# Altium integrated library NXP Semiconductors Standard MOSFETs.IntLib: 477 symbols (part 4 of 14)
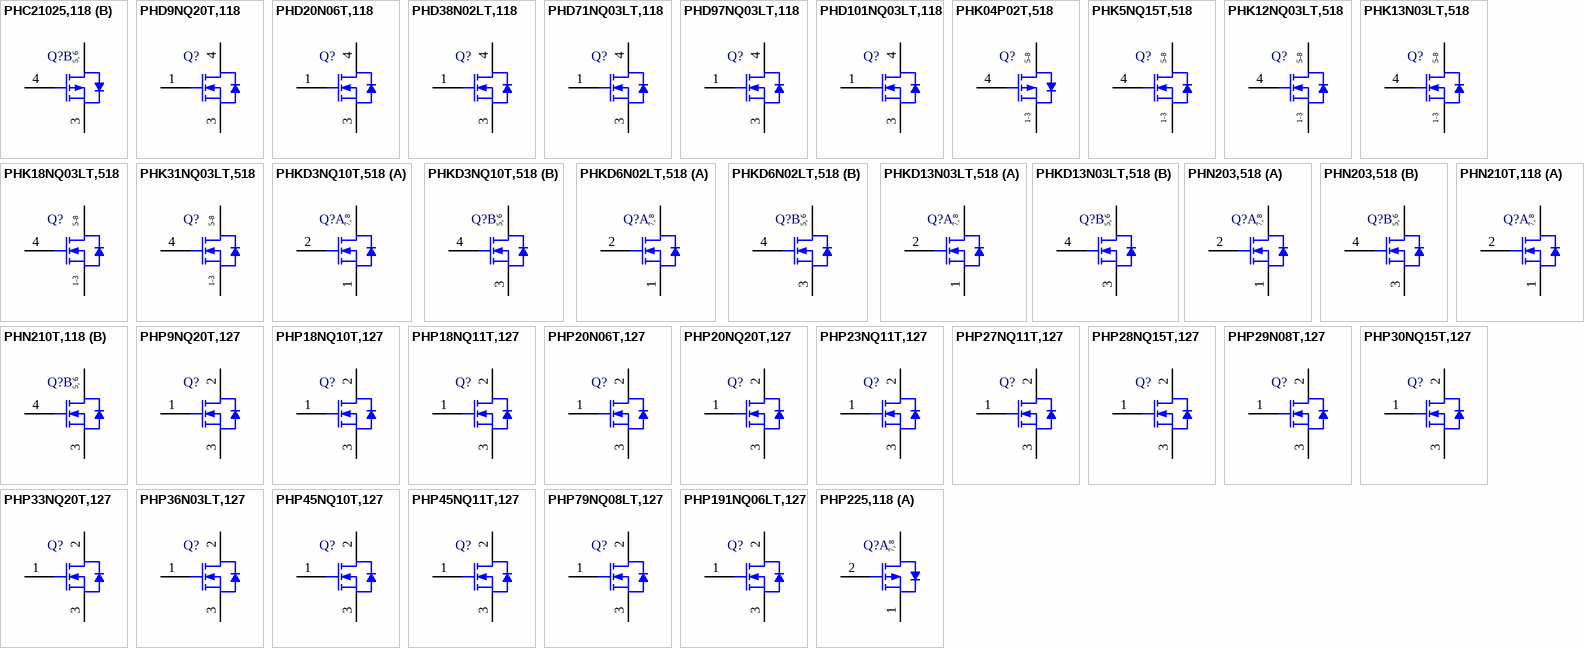
[diagram p15: symbols PHC21025,118 to PHP225,118]

## PHP28NQ15T,127
designator Q?
N-Channel TrenchMOS Standard Level FET, 150 V, 28.5 A, 3-Pin SOT78, Tube; Manufacturer: NXP Semiconductors; PartNumber: PHP28NQ15T,127; Channel Type: N; Ciss [typ] (pF): 1250; Coss [typ] (pF): 185; ID [max] (A): 28.5; Qr [typ] (nC): 170; VDS [max] (V): 150; VGSth [typ] (V): 3; DatasheetVersion: Rev. 02; PackageVersion: 08-06-13, 06/2008; PackageReference: SOT78; PackageDescription: 3-Pin Flange Mount, Vertical Straight Lead, Body 10 x 4.4 mm, Pitch 2.54 mm; Supplier 1: Digi-Key; Supplier Part Number 1: 568-5761-5-ND; Supplier 2: Mouser; Supplier Part Number 2: 771-PHP28NQ15T,127; Packing: Tube; Mounting Technology: Through Hole; Code_JEITA: SC-46; Code_JEDEC: 3-lead TO-220AB; ComponentLink1Description: Manufacturer URL; ComponentLink1URL: http://www.nxp.com/; ComponentLink2Description: Datasheet; ComponentLink2URL: http://www.nxp.com/documents/data_sheet/PHP28NQ15T.pdf; ComponentLink3Description: Package Specification; ComponentLink3URL: http://www.nxp.com/documents/outline_drawing/sot078_po.pdf
footprint NXP-SOT78 (FM, 3-Leads, Body 10.3x4.7mm, Pitch 2.54mm)
pins: 1 G "gate", 2 D "drain", 3 S "source"

## PHP29N08T,127
designator Q?
N-Channel TrenchMOS Standard Level FET, 75 V, 27 A, 3-Pin SOT78, Tube; Manufacturer: NXP Semiconductors; PartNumber: PHP29N08T,127; Channel Type: N; Ciss [typ] (pF): 810; Coss [typ] (pF): 140; ID [max] (A): 27; Qr [typ] (nC): 65; VDS [max] (V): 75; VGSth [typ] (V): 4; DatasheetVersion: Rev. 02; PackageVersion: 08-06-13, 06/2008; PackageReference: SOT78; PackageDescription: 3-Pin Flange Mount, Vertical Straight Lead, Body 10 x 4.4 mm, Pitch 2.54 mm; Supplier 1: Digi-Key; Supplier Part Number 1: 568-5762-5-ND; Supplier 2: Mouser; Supplier Part Number 2: 771-PHP29N08T127; Packing: Tube; Mounting Technology: Through Hole; Code_JEITA: SC-46; Code_JEDEC: 3-lead TO-220AB; ComponentLink1Description: Manufacturer URL; ComponentLink1URL: http://www.nxp.com/; ComponentLink2Description: Datasheet; ComponentLink2URL: http://www.nxp.com/documents/data_sheet/PHP29N08T.pdf; ComponentLink3Description: Package Specification; ComponentLink3URL: http://www.nxp.com/documents/outline_drawing/sot078_po.pdf
footprint NXP-SOT78 (FM, 3-Leads, Body 10.3x4.7mm, Pitch 2.54mm)
pins: 1 G "gate", 2 D "drain", 3 S "source"

## PHP30NQ15T,127
designator Q?
N-Channel TrenchMOS Standard Level FET, 150 V, 29 A, 3-Pin SOT78, Tube; Manufacturer: NXP Semiconductors; PartNumber: PHP30NQ15T,127; Channel Type: N; Ciss [typ] (pF): 2390; Coss [typ] (pF): 240; ID [max] (A): 29; Qr [typ] (nC): 550; VDS [max] (V): 150; VGSth [typ] (V): 3; DatasheetVersion: Rev. 03; PackageVersion: 08-06-13, 06/2008; PackageReference: SOT78; PackageDescription: 3-Pin Flange Mount, Vertical Straight Lead, Body 10 x 4.4 mm, Pitch 2.54 mm; Supplier 1: Digi-Key; Supplier Part Number 1: 568-5763-5-ND; Supplier 2: Mouser; Supplier Part Number 2: 771-PHP30NQ15T127; Packing: Tube; Mounting Technology: Through Hole; Code_JEITA: SC-46; Code_JEDEC: 3-lead TO-220AB; ComponentLink1Description: Manufacturer URL; ComponentLink1URL: http://www.nxp.com/; ComponentLink2Description: Datasheet; ComponentLink2URL: http://www.nxp.com/documents/data_sheet/PHP30NQ15T.pdf; ComponentLink3Description: Package Specification; ComponentLink3URL: http://www.nxp.com/documents/outline_drawing/sot078_po.pdf
footprint NXP-SOT78 (FM, 3-Leads, Body 10.3x4.7mm, Pitch 2.54mm)
pins: 1 G "gate", 2 D "drain", 3 S "source"

## PHP33NQ20T,127
designator Q?
N-Channel TrenchMOS Standard Level FET, 200 V, 32.7 A, 3-Pin SOT78, Tube; Manufacturer: NXP Semiconductors; PartNumber: PHP33NQ20T,127; Channel Type: N; Ciss [typ] (pF): 1870; Coss [typ] (pF): 230; ID [max] (A): 32.7; Qr [typ] (nC): 645; VDS [max] (V): 200; VGSth [typ] (V): 3; DatasheetVersion: Rev. 02; PackageVersion: 08-06-13, 06/2008; PackageReference: SOT78; PackageDescription: 3-Pin Flange Mount, Vertical Straight Lead, Body 10 x 4.4 mm, Pitch 2.54 mm; Supplier 1: Digi-Key; Supplier Part Number 1: 568-5764-5-ND; Supplier 2: Mouser; Supplier Part Number 2: 771-PHP33NQ20T127; Packing: Tube; Mounting Technology: Through Hole; Code_JEITA: SC-46; Code_JEDEC: 3-lead TO-220AB; ComponentLink1Description: Manufacturer URL; ComponentLink1URL: http://www.nxp.com/; ComponentLink2Description: Datasheet; ComponentLink2URL: http://www.nxp.com/documents/data_sheet/PHP33NQ20T.pdf; ComponentLink3Description: Package Specification; ComponentLink3URL: http://www.nxp.com/documents/outline_drawing/sot078_po.pdf
footprint NXP-SOT78 (FM, 3-Leads, Body 10.3x4.7mm, Pitch 2.54mm)
pins: 1 G "gate", 2 D "drain", 3 S "source"

## PHP36N03LT,127
designator Q?
N-Channel TrenchMOS Logic Level FET, 30 V, 43.4 A, 3-Pin SOT78, Tube; Manufacturer: NXP Semiconductors; PartNumber: PHP36N03LT,127; Channel Type: N; Ciss [typ] (pF): 690; Coss [typ] (pF): 160; ID [max] (A): 43.4; VDS [max] (V): 30; VGSth [typ] (V): 1.5; DatasheetVersion: Rev. 04; PackageVersion: 08-06-13, 06/2008; PackageReference: SOT78; PackageDescription: 3-Pin Flange Mount, Vertical Straight Lead, Body 10 x 4.4 mm, Pitch 2.54 mm; Supplier 1: Digi-Key; Supplier Part Number 1: 568-5765-5-ND; Supplier 2: Mouser; Supplier Part Number 2: 771-PHP36N03LT,127; Packing: Tube; Mounting Technology: Through Hole; Code_JEITA: SC-46; Code_JEDEC: 3-lead TO-220AB; ComponentLink1Description: Manufacturer URL; ComponentLink1URL: http://www.nxp.com/; ComponentLink2Description: Datasheet; ComponentLink2URL: http://www.nxp.com/documents/data_sheet/PHP36N03LT.pdf; ComponentLink3Description: Package Specification; ComponentLink3URL: http://www.nxp.com/documents/outline_drawing/sot078_po.pdf
footprint NXP-SOT78 (FM, 3-Leads, Body 10.3x4.7mm, Pitch 2.54mm)
pins: 1 G "gate", 2 D "drain", 3 S "source"

## PHP45NQ10T,127
designator Q?
N-Channel TrenchMOS Standard Level FET, 100 V, 47 A, 3-Pin SOT78, Tube; Manufacturer: NXP Semiconductors; PartNumber: PHP45NQ10T,127; Channel Type: N; Ciss [typ] (pF): 2600; Coss [typ] (pF): 340; ID [max] (A): 47; Qr [typ] (nC): 260; VDS [max] (V): 100; VGSth [typ] (V): 3; DatasheetVersion: Rev. 02; PackageVersion: 08-06-13, 06/2008; PackageReference: SOT78; PackageDescription: 3-Pin Flange Mount, Vertical Straight Lead, Body 10 x 4.4 mm, Pitch 2.54 mm; Supplier 1: Digi-Key; Supplier Part Number 1: 568-5766-5-ND; Supplier 2: Mouser; Supplier Part Number 2: 771-PHP45NQ10T127; Packing: Tube; Mounting Technology: Through Hole; Code_JEITA: SC-46; Code_JEDEC: 3-lead TO-220AB; ComponentLink1Description: Manufacturer URL; ComponentLink1URL: http://www.nxp.com/; ComponentLink2Description: Datasheet; ComponentLink2URL: http://www.nxp.com/documents/data_sheet/PHP45NQ10T.pdf; ComponentLink3Description: Package Specification; ComponentLink3URL: http://www.nxp.com/documents/outline_drawing/sot078_po.pdf
footprint NXP-SOT78 (FM, 3-Leads, Body 10.3x4.7mm, Pitch 2.54mm)
pins: 1 G "gate", 2 D "drain", 3 S "source"

## PHP45NQ11T,127
designator Q?
N-Channel TrenchMOS Standard Level FET, 105 V, 47 A, 3-Pin SOT78, Tube; Manufacturer: NXP Semiconductors; PartNumber: PHP45NQ11T,127; Channel Type: N; Ciss [typ] (pF): 2930; Coss [typ] (pF): 245; ID [max] (A): 47; Qr [typ] (nC): 117; VDS [max] (V): 105; VGSth [typ] (V): 3; DatasheetVersion: Rev. 02; PackageVersion: 08-06-13, 06/2008; PackageReference: SOT78; PackageDescription: 3-Pin Flange Mount, Vertical Straight Lead, Body 10 x 4.4 mm, Pitch 2.54 mm; Supplier 1: Digi-Key; Supplier Part Number 1: 568-5767-5-ND; Supplier 2: Mouser; Supplier Part Number 2: 771-PHP45NQ11T127; Packing: Tube; Mounting Technology: Through Hole; Code_JEITA: SC-46; Code_JEDEC: 3-lead TO-220AB; ComponentLink1Description: Manufacturer URL; ComponentLink1URL: http://www.nxp.com/; ComponentLink2Description: Datasheet; ComponentLink2URL: http://www.nxp.com/documents/data_sheet/PHP45NQ11T.pdf; ComponentLink3Description: Package Specification; ComponentLink3URL: http://www.nxp.com/documents/outline_drawing/sot078_po.pdf
footprint NXP-SOT78 (FM, 3-Leads, Body 10.3x4.7mm, Pitch 2.54mm)
pins: 1 G "gate", 2 D "drain", 3 S "source"

## PHP79NQ08LT,127
designator Q?
N-Channel TrenchMOS Logic Level FET, 75 V, 3-Pin SOT78, Tube; Manufacturer: NXP Semiconductors; PartNumber: PHP79NQ08LT,127; Channel Type: N; Ciss [typ] (pF): 3026; Coss [typ] (pF): 301; Qr [typ] (nC): 110; VDS [max] (V): 75; VGSth [typ] (V): 1.5; DatasheetVersion: Rev. 03; PackageVersion: 08-06-13, 06/2008; PackageReference: SOT78; PackageDescription: 3-Pin Flange Mount, Vertical Straight Lead, Body 10 x 4.4 mm, Pitch 2.54 mm; Supplier 1: Digi-Key; Supplier Part Number 1: 568-5768-5-ND; Supplier 2: Mouser; Supplier Part Number 2: 771-PHP79NQ08LT,127; Packing: Tube; Mounting Technology: Through Hole; Code_JEITA: SC-46; Code_JEDEC: 3-lead TO-220AB; ComponentLink1Description: Manufacturer URL; ComponentLink1URL: http://www.nxp.com/; ComponentLink2Description: Datasheet; ComponentLink2URL: http://www.nxp.com/documents/data_sheet/PHP79NQ08LT.pdf; ComponentLink3Description: Package Specification; ComponentLink3URL: http://www.nxp.com/documents/outline_drawing/sot078_po.pdf
footprint NXP-SOT78 (FM, 3-Leads, Body 10.3x4.7mm, Pitch 2.54mm)
pins: 1 G "gate", 2 D "drain", 3 S "source"

## PHP191NQ06LT,127
designator Q?
N-Channel TrenchMOS Logic Level FET, 55 V, 75 A, 3-Pin SOT78, Tube; Manufacturer: NXP Semiconductors; PartNumber: PHP191NQ06LT,127; Channel Type: N; Ciss [typ] (pF): 7665; Coss [typ] (pF): 1045; ID [max] (A): 75; Qr [typ] (nC): 171; VDS [max] (V): 55; VGSth [typ] (V): 1.5; DatasheetVersion: Rev. 02; PackageVersion: 08-06-13, 06/2008; PackageReference: SOT78; PackageDescription: 3-Pin Flange Mount, Vertical Straight Lead, Body 10 x 4.4 mm, Pitch 2.54 mm; Supplier 1: Digi-Key; Supplier Part Number 1: 568-5756-5-ND; Supplier 2: Mouser; Supplier Part Number 2: 771-PHP191NQ06LT,127; Packing: Tube; Mounting Technology: Through Hole; Code_JEITA: SC-46; Code_JEDEC: 3-lead TO-220AB; ComponentLink1Description: Manufacturer URL; ComponentLink1URL: http://www.nxp.com/; ComponentLink2Description: Datasheet; ComponentLink2URL: http://www.nxp.com/documents/data_sheet/PHP191NQ06LT.pdf; ComponentLink3Description: Package Specification; ComponentLink3URL: http://www.nxp.com/documents/outline_drawing/sot078_po.pdf
footprint NXP-SOT78 (FM, 3-Leads, Body 10.3x4.7mm, Pitch 2.54mm)
pins: 1 G "gate", 2 D "drain", 3 S "source"

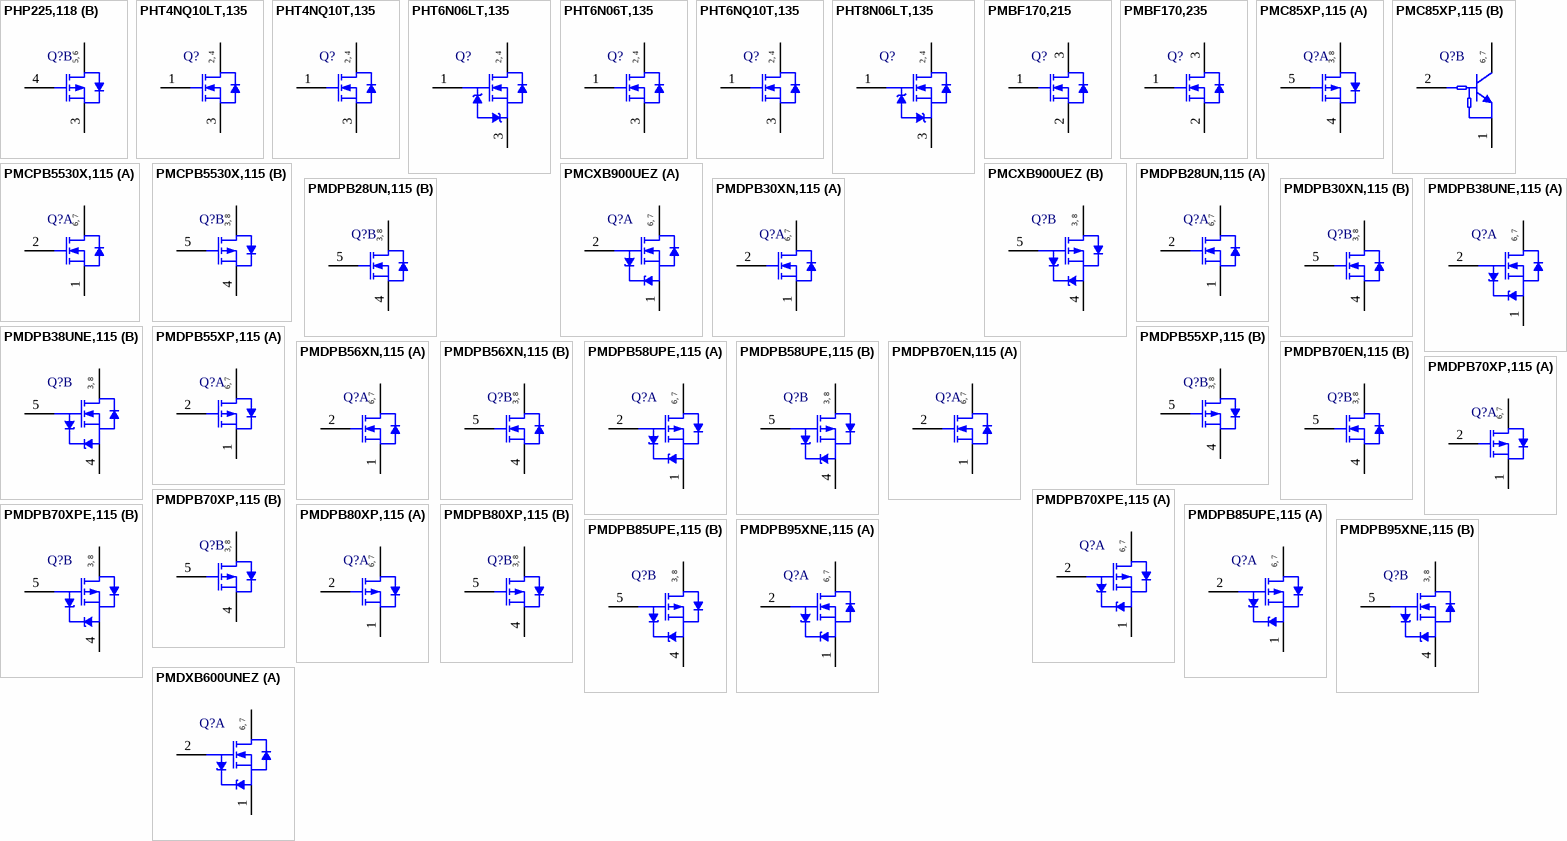
[diagram p3: symbols PHP225,118 to PMDXB600UNEZ]

## PHP225,118
designator Q?
Dual P-Channel Intermediate Level FET, -30 V, -2.3 A, 8-Pin SOT96-1, Tape and Reel; Manufacturer: NXP Semiconductors; PartNumber: PHP225,118; Channel Type: P; Ciss [typ] (pF): 250; Coss [typ] (pF): 140; Packing: Tape & Reel; Code_IEC: 76000; DatasheetVersion: Rev. 04; PackageVersion: 03-02-18, 02/2003; PackageReference: SOT96-1; PackageDescription: 8-Pin Plastic Small Outline Package, Body 4.9 x 3.9 mm, Pitch 1.27 mm; Supplier 1: Digi-Key; Supplier Part Number 1: 568-9693-2-ND; Supplier 2: Digi-Key; Supplier Part Number 2: 568-9693-1-ND; Supplier 3: Digi-Key; Supplier Part Number 3: 568-9693-6-ND; Supplier 4: Mouser; Supplier Part Number 4: 771-PHP225118; ID [max] (A): -2.3; VDS [max] (V): -30; Mounting Technology: Surface Mount; Code_JEDEC: MS-012; ComponentLink1Description: Manufacturer URL; ComponentLink1URL: http://www.nxp.com/; ComponentLink2Description: Datasheet; ComponentLink2URL: http://www.nxp.com/documents/data_sheet/PHP225.pdf; ComponentLink3Description: Package Specification; ComponentLink3URL: http://www.nxp.com/documents/outline_drawing/sot096-1_po.pdf
footprint NXP-SOT96-1_N (SOIC, 8-Leads, Body 5x4mm, Pitch 1.27mm, IPC Medium Density)
footprint NXP-SOT96-1_L (SOIC, 8-Leads, Body 5x4mm, Pitch 1.27mm, IPC High Density)
footprint NXP-SOT96-1_M (SOIC, 8-Leads, Body 5x4mm, Pitch 1.27mm, IPC Low Density)
part A pins: 1 S1 "source1", 2 G1 "gate1", 7 D1 "drain1", 8 D1 "drain1"
part B pins: 3 S2 "source2", 4 G2 "gate2", 5 D2 "drain2", 6 D2 "drain2"
part A text: 7, 8
part B text: 5, 6

## PHT4NQ10LT,135
designator Q?
N-Channel TrenchMOS Logic Level FET, 100 V, 3.5 A, 4-Pin SOT223, Tape and Reel; Manufacturer: NXP Semiconductors; PartNumber: PHT4NQ10LT,135; Channel Type: N; ID [max] (A): 3.5; Packing: Tape & Reel; Qr [typ] (nC): 100; DatasheetVersion: Rev. 2; PackageVersion: 06-03-16, 03/2006; PackageReference: SOT223; PackageDescription: 4-Pin Small Outline Transistor Package, Body 6.5 x 3.5 mm, Pitch 2.3 mm; Supplier 1: Digi-Key; Supplier Part Number 1: 568-6758-2-ND; Supplier 2: Digi-Key; Supplier Part Number 2: 568-6758-1-ND; Supplier 3: Digi-Key; Supplier Part Number 3: 568-6758-6-ND; Supplier 4: Farnell; Supplier Part Number 4: 1758090; Supplier 5: Farnell; Supplier Part Number 5: 1758090RL; Supplier 6: Newark; Supplier Part Number 6: 79R1995; Supplier 7: Mouser; Supplier Part Number 7: 771-PHT4NQ10LT135; VDS [max] (V): 100; Mounting Technology: Surface Mount; Code_JEITA: SC-73; ComponentLink1Description: Manufacturer URL; ComponentLink1URL: http://www.nxp.com/; ComponentLink2Description: Datasheet; ComponentLink2URL: http://www.nxp.com/documents/data_sheet/PHT4NQ10LT.pdf; ComponentLink3Description: Package Specification; ComponentLink3URL: http://www.nxp.com/documents/outline_drawing/sot223_po.pdf
footprint NXP-SOT223_N (SOT223, 4-Leads, Body 6.7x3.7mm, Pitch 2.3mm, IPC Medium Density)
footprint NXP-SOT223_L (SOT223, 4-Leads, Body 6.7x3.7mm, Pitch 2.3mm, IPC High Density)
footprint NXP-SOT223_M (SOT223, 4-Leads, Body 6.7x3.7mm, Pitch 2.3mm, IPC Low Density)
pins: 1 G "gate", 2 D "drain", 3 S "source", 4 D "drain"
text: 2, 4

## PHT4NQ10T,135
designator Q?
N-Channel TrenchMOS(TM) Standard Level FET, 100 V, 3.5 A, 4-Pin SOT223, Tape and Reel; Manufacturer: NXP Semiconductors; PartNumber: PHT4NQ10T,135; Channel Type: N; Ciss [typ] (pF): 300; Coss [typ] (pF): 44; ID [max] (A): 3.5; Packing: Tape & Reel; Qr [typ] (nC): 100; VGSth [typ] (V): 3; DatasheetVersion: Rev. 02; PackageVersion: 06-03-16, 03/2006; PackageReference: SOT223; PackageDescription: 4-Pin Small Outline Transistor Package, Body 6.5 x 3.5 mm, Pitch 2.3 mm; Supplier 1: Digi-Key; Supplier Part Number 1: 568-6777-2-ND; Supplier 2: Digi-Key; Supplier Part Number 2: 568-6777-1-ND; Supplier 3: Digi-Key; Supplier Part Number 3: 568-6777-6-ND; Supplier 4: Farnell; Supplier Part Number 4: 1758091; Supplier 5: Farnell; Supplier Part Number 5: 1758091RL; Supplier 6: Newark; Supplier Part Number 6: 79R1996; Supplier 7: Mouser; Supplier Part Number 7: 771-PHT4NQ10T135; VDS [max] (V): 100; Mounting Technology: Surface Mount; Code_JEITA: SC-73; ComponentLink1Description: Manufacturer URL; ComponentLink1URL: http://www.nxp.com/; ComponentLink2Description: Datasheet; ComponentLink2URL: http://www.nxp.com/documents/data_sheet/PHT4NQ10T.pdf; ComponentLink3Description: Package Specification; ComponentLink3URL: http://www.nxp.com/documents/outline_drawing/sot223_po.pdf
footprint NXP-SOT223_N (SOT223, 4-Leads, Body 6.7x3.7mm, Pitch 2.3mm, IPC Medium Density)
footprint NXP-SOT223_L (SOT223, 4-Leads, Body 6.7x3.7mm, Pitch 2.3mm, IPC High Density)
footprint NXP-SOT223_M (SOT223, 4-Leads, Body 6.7x3.7mm, Pitch 2.3mm, IPC Low Density)
pins: 1 G "gate", 2 D "drain", 3 S "source", 4 D "drain"
text: 2, 4

## PHT6N06LT,135
designator Q?
N-Channel TrenchMOS(TM) Transistor Logic Level FET, 55 V, -55 to 150 degC, 4-Pin SOT223, Tape and Reel; Manufacturer: NXP Semiconductors; PartNumber: PHT6N06LT,135; Channel Type: N; Ciss [typ] (pF): 250; Coss [typ] (pF): 65; Packing: Tape & Reel; Qr [typ] (nC): 160; VDS [max] (V): 55; VGSth [typ] (V): 1.5; DatasheetVersion: Rev. 1.100; PackageVersion: 06-03-16, 03/2006; PackageReference: SOT223; PackageDescription: 4-Pin Small Outline Transistor Package, Body 6.5 x 3.5 mm, Pitch 2.3 mm; Supplier 1: Digi-Key; Supplier Part Number 1: 568-7367-2-ND; Supplier 2: Digi-Key; Supplier Part Number 2: 568-7367-1-ND; Supplier 3: Digi-Key; Supplier Part Number 3: 568-7367-6-ND; Supplier 4: Newark; Supplier Part Number 4: 79R1998; Supplier 5: Mouser; Supplier Part Number 5: 771-PHT6N06LT135; Mounting Technology: Surface Mount; Code_JEITA: SC-73; ComponentLink1Description: Manufacturer URL; ComponentLink1URL: http://www.nxp.com/; ComponentLink2Description: Datasheet; ComponentLink2URL: http://www.nxp.com/documents/data_sheet/PHT6N06LT.pdf; ComponentLink3Description: Package Specification; ComponentLink3URL: http://www.nxp.com/documents/outline_drawing/sot223_po.pdf
footprint NXP-SOT223_N (SOT223, 4-Leads, Body 6.7x3.7mm, Pitch 2.3mm, IPC Medium Density)
footprint NXP-SOT223_L (SOT223, 4-Leads, Body 6.7x3.7mm, Pitch 2.3mm, IPC High Density)
footprint NXP-SOT223_M (SOT223, 4-Leads, Body 6.7x3.7mm, Pitch 2.3mm, IPC Low Density)
pins: 1 G "gate", 2 D "drain", 3 S "source", 4 D "drain (tab)"
text: 2, 4

## PHT6N06T,135
designator Q?
N-Channel TrenchMOS(TM) Standard Level FET, 55 V, 5.5 A, 4-Pin SOT223, Tape and Reel; Manufacturer: NXP Semiconductors; PartNumber: PHT6N06T,135; Channel Type: N; Ciss [typ] (pF): 175; Coss [typ] (pF): 58; ID [max] (A): 5.5; Packing: Tape & Reel; Qr [typ] (nC): 50; VDS [max] (V): 55; VGSth [typ] (V): 3; DatasheetVersion: Rev. 02; PackageVersion: 06-03-16, 03/2006; PackageReference: SOT223; PackageDescription: 4-Pin Small Outline Transistor Package, Body 6.5 x 3.5 mm, Pitch 2.3 mm; Supplier 1: Digi-Key; Supplier Part Number 1: 568-7368-2-ND; Supplier 2: Digi-Key; Supplier Part Number 2: 568-7368-1-ND; Supplier 3: Digi-Key; Supplier Part Number 3: 568-7368-6-ND; Supplier 4: Newark; Supplier Part Number 4: 79R1999; Supplier 5: Newark; Supplier Part Number 5: 70R7493; Supplier 6: Mouser; Supplier Part Number 6: 771-PHT6N06T135; Mounting Technology: Surface Mount; Code_JEITA: SC-73; ComponentLink1Description: Manufacturer URL; ComponentLink1URL: http://www.nxp.com/; ComponentLink2Description: Datasheet; ComponentLink2URL: http://www.nxp.com/documents/data_sheet/PHT6N06T.pdf; ComponentLink3Description: Package Specification; ComponentLink3URL: http://www.nxp.com/documents/outline_drawing/sot223_po.pdf
footprint NXP-SOT223_N (SOT223, 4-Leads, Body 6.7x3.7mm, Pitch 2.3mm, IPC Medium Density)
footprint NXP-SOT223_L (SOT223, 4-Leads, Body 6.7x3.7mm, Pitch 2.3mm, IPC High Density)
footprint NXP-SOT223_M (SOT223, 4-Leads, Body 6.7x3.7mm, Pitch 2.3mm, IPC Low Density)
pins: 1 G "gate", 2 D "drain", 3 S "source", 4 D "drain"
text: 2, 4

## PHT6NQ10T,135
designator Q?
N-Channel TrenchMOS(TM) Transistor, 100 V, 4-Pin SOT223, Tape and Reel; Manufacturer: NXP Semiconductors; PartNumber: PHT6NQ10T,135; Channel Type: N; Ciss [typ] (pF): 633; Coss [typ] (pF): 103; Packing: Tape & Reel; Qr [typ] (nC): 135; VDS [max] (V): 100; VGSth [typ] (V): 3; DatasheetVersion: Rev. 1.000; PackageVersion: 06-03-16, 03/2006; PackageReference: SOT223; PackageDescription: 4-Pin Small Outline Transistor Package, Body 6.5 x 3.5 mm, Pitch 2.3 mm; Supplier 1: Digi-Key; Supplier Part Number 1: 568-6791-2-ND; Supplier 2: Digi-Key; Supplier Part Number 2: 568-6791-1-ND; Supplier 3: Digi-Key; Supplier Part Number 3: 568-6791-6-ND; Supplier 4: Newark; Supplier Part Number 4: 79R1997; Supplier 5: Mouser; Supplier Part Number 5: 771-PHT6NQ10T135; Mounting Technology: Surface Mount; Code_JEITA: SC-73; ComponentLink1Description: Manufacturer URL; ComponentLink1URL: http://www.nxp.com/; ComponentLink2Description: Datasheet; ComponentLink2URL: http://www.nxp.com/documents/data_sheet/PHT6NQ10T.pdf; ComponentLink3Description: Package Specification; ComponentLink3URL: http://www.nxp.com/documents/outline_drawing/sot223_po.pdf
footprint NXP-SOT223_N (SOT223, 4-Leads, Body 6.7x3.7mm, Pitch 2.3mm, IPC Medium Density)
footprint NXP-SOT223_L (SOT223, 4-Leads, Body 6.7x3.7mm, Pitch 2.3mm, IPC High Density)
footprint NXP-SOT223_M (SOT223, 4-Leads, Body 6.7x3.7mm, Pitch 2.3mm, IPC Low Density)
pins: 1 G "gate", 2 D "drain", 3 S "source", 4 D "drain"
text: 2, 4

## PHT8N06LT,135
designator Q?
N-Channel TrenchMOS(TM) Transistor Logic Level FET, 55 V, -55 to 150 degC, 4-Pin SOT223, Tape and Reel; Manufacturer: NXP Semiconductors; PartNumber: PHT8N06LT,135; Channel Type: N; Ciss [typ] (pF): 500; Coss [typ] (pF): 110; Packing: Tape & Reel; VDS [max] (V): 55; VGSth [typ] (V): 1.5; DatasheetVersion: Rev. 1.100; PackageVersion: 06-03-16, 03/2006; PackageReference: SOT223; PackageDescription: 4-Pin Small Outline Transistor Package, Body 6.5 x 3.5 mm, Pitch 2.3 mm; Supplier 1: Digi-Key; Supplier Part Number 1: 568-7369-2-ND; Supplier 2: Digi-Key; Supplier Part Number 2: 568-7369-1-ND; Supplier 3: Digi-Key; Supplier Part Number 3: 568-7369-6-ND; Supplier 4: Newark; Supplier Part Number 4: 79R2000; Supplier 5: Mouser; Supplier Part Number 5: 771-PHT8N06LT135; Mounting Technology: Surface Mount; Code_JEITA: SC-73; ComponentLink1Description: Manufacturer URL; ComponentLink1URL: http://www.nxp.com/; ComponentLink2Description: Datasheet; ComponentLink2URL: http://www.nxp.com/documents/data_sheet/PHT8N06LT.pdf; ComponentLink3Description: Package Specification; ComponentLink3URL: http://www.nxp.com/documents/outline_drawing/sot223_po.pdf
footprint NXP-SOT223_N (SOT223, 4-Leads, Body 6.7x3.7mm, Pitch 2.3mm, IPC Medium Density)
footprint NXP-SOT223_L (SOT223, 4-Leads, Body 6.7x3.7mm, Pitch 2.3mm, IPC High Density)
footprint NXP-SOT223_M (SOT223, 4-Leads, Body 6.7x3.7mm, Pitch 2.3mm, IPC Low Density)
pins: 1 G "gate", 2 D "drain", 3 S "source", 4 D "drain (tab)"
text: 2, 4

## PMBF170,215
designator Q?
N-Channel Enhancement Mode Field-Effect Transistor, 60 V, 0.3 A, 3-Pin SOT23, Tape and Reel; Manufacturer: NXP Semiconductors; PartNumber: PMBF170,215; Channel Type: N; Ciss [typ] (pF): 25; Coss [typ] (pF): 18; ID [max] (A): 0.3; Packing: Tape & Reel; Qr [typ] (nC): 30; VDS [max] (V): 60; VGSth [typ] (V): 2; DatasheetVersion: Rev. 03; PackageVersion: 06-03-16, 03/2006; PackageReference: SOT23; PackageDescription: 3-Pin Small Outline Transistor Package, Body 2.9 x 1.3 mm, Pitch 0.95 mm; Supplier 1: Digi-Key; Supplier Part Number 1: 568-6477-2-ND; Supplier 2: Digi-Key; Supplier Part Number 2: 568-6477-1-ND; Supplier 3: Digi-Key; Supplier Part Number 3: 568-6477-6-ND; Supplier 4: Farnell; Supplier Part Number 4: 1081473; Supplier 5: Farnell; Supplier Part Number 5: 1081473RL; Supplier 6: Farnell; Supplier Part Number 6: 2336816; Supplier 7: Newark; Supplier Part Number 7: 75R4824; Supplier 8: Newark; Supplier Part Number 8: 96K5160; Supplier 9: Newark; Supplier Part Number 9: 70R7592; Supplier 10: Mouser; Supplier Part Number 10: 771-PMBF170-T/R; Mounting Technology: Surface Mount; Code_JEDEC: TO-236AB; ComponentLink1Description: Manufacturer URL; ComponentLink1URL: http://www.nxp.com/; ComponentLink2Description: Datasheet; ComponentLink2URL: http://www.nxp.com/documents/data_sheet/PMBF170.pdf; ComponentLink3Description: Package Specification; ComponentLink3URL: http://www.nxp.com/documents/outline_drawing/sot023_po.pdf
footprint NXP-SOT23_N (SOT23, 3-Leads, Body 3x1.4mm, Pitch 0.95mm, IPC Medium Density)
footprint NXP-SOT23_L (SOT23, 3-Leads, Body 3x1.4mm, Pitch 0.95mm, IPC High Density)
footprint NXP-SOT23_M (SOT23, 3-Leads, Body 3x1.4mm, Pitch 0.95mm, IPC Low Density)
pins: 1 G "gate", 2 S "source", 3 D "drain"

## PMBF170,235
designator Q?
N-Channel Enhancement Mode Field-Effect Transistor, 60 V, 0.3 A, 3-Pin SOT23, Tape and Reel; Manufacturer: NXP Semiconductors; PartNumber: PMBF170,235; Channel Type: N; Ciss [typ] (pF): 25; Coss [typ] (pF): 18; ID [max] (A): 0.3; Packing: Tape & Reel; Qr [typ] (nC): 30; VDS [max] (V): 60; VGSth [typ] (V): 2; DatasheetVersion: Rev. 03; PackageVersion: 06-03-16, 03/2006; PackageReference: SOT23; PackageDescription: 3-Pin Small Outline Transistor Package, Body 2.9 x 1.3 mm, Pitch 0.95 mm; Supplier 1: Digi-Key; Supplier Part Number 1: PMBF170,235-ND; Supplier 2: Newark; Supplier Part Number 2: 70R7593; Supplier 3: Mouser; Supplier Part Number 3: 771-PMBF170235; Mounting Technology: Surface Mount; Code_JEDEC: TO-236AB; ComponentLink1Description: Manufacturer URL; ComponentLink1URL: http://www.nxp.com/; ComponentLink2Description: Datasheet; ComponentLink2URL: http://www.nxp.com/documents/data_sheet/PMBF170.pdf; ComponentLink3Description: Package Specification; ComponentLink3URL: http://www.nxp.com/documents/outline_drawing/sot023_po.pdf
footprint NXP-SOT23_N (SOT23, 3-Leads, Body 3x1.4mm, Pitch 0.95mm, IPC Medium Density)
footprint NXP-SOT23_L (SOT23, 3-Leads, Body 3x1.4mm, Pitch 0.95mm, IPC High Density)
footprint NXP-SOT23_M (SOT23, 3-Leads, Body 3x1.4mm, Pitch 0.95mm, IPC Low Density)
pins: 1 G "gate", 2 S "source", 3 D "drain"

## PMC85XP,115
designator Q?
P-Channel MOSFET with Pre-Biased NPN Transistor, -30 V, -55 to 150 degC, 8-Pin SOT1118, Reel; Manufacturer: NXP Semiconductors; PartNumber: PMC85XP,115; Channel Type: P; Ciss [typ] (pF): 680; Coss [typ] (pF): 54; VGSth [typ] (V): -0.78; DatasheetVersion: Rev. 2; PackageVersion: 13-06-06, 06/2013; PackageReference: SOT1118; PackageDescription: 6-Pin Small Outline No-Lead, Body 2 x 2 mm, Pitch 0.65 mm; Supplier 1: Digi-Key; Supplier Part Number 1: 568-10441-2-ND; Supplier 2: Digi-Key; Supplier Part Number 2: 568-10441-1-ND; Supplier 3: Digi-Key; Supplier Part Number 3: 568-10441-6-ND; Supplier 4: Mouser; Supplier Part Number 4: 771-PMC85XP,115; Packing: Reel; VDS [max] (V): -30; Mounting Technology: Surface Mount; ComponentLink1Description: Manufacturer URL; ComponentLink1URL: http://www.nxp.com/; ComponentLink2Description: Datasheet; ComponentLink2URL: http://www.nxp.com/documents/data_sheet/PMC85XP.pdf; ComponentLink3Description: Package Specification; ComponentLink3URL: http://www.nxp.com/documents/outline_drawing/sot1118_po.pdf
footprint NXP-SOT1118_N (SON, 6-Leads, Body 2.1x2.1mm, Pitch 0.65mm, 2X Thermal Pad 0.67x1 mm, IPC Medium Density)
footprint NXP-SOT1118_L (SON, 6-Leads, Body 2.1x2.1mm, Pitch 0.65mm, 2X Thermal Pad 0.67x1 mm, IPC High Density)
footprint NXP-SOT1118_M (SON, 6-Leads, Body 2.1x2.1mm, Pitch 0.65mm, 2X Thermal Pad 0.67x1 mm, IPC Low Density)
part A pins: 3 D "drain", 4 S "source", 5 G "gate", 8 D "drain"
part B pins: 1 E "emitter", 2 B "base", 6 C "collector", 7 C "collector"
part A text: 3, 8
part B text: 6, 7

## PMCPB5530X,115
designator Q?
Dual Complementary N/P-Channel Trench MOSFET, 20 / -20 V, -55 to 150 degC, 8-Pin SOT1118, Reel; Manufacturer: NXP Semiconductors; PartNumber: PMCPB5530X,115; Channel Type: N/P; DatasheetVersion: Rev. 1; PackageVersion: 13-06-06, 06/2013; PackageReference: SOT1118; PackageDescription: 6-Pin Small Outline No-Lead, Body 2 x 2 mm, Pitch 0.65 mm; Supplier 1: Digi-Key; Supplier Part Number 1: 568-10754-2-ND; Supplier 2: Digi-Key; Supplier Part Number 2: 568-10754-1-ND; Supplier 3: Digi-Key; Supplier Part Number 3: 568-10754-6-ND; Supplier 4: Mouser; Supplier Part Number 4: 771-PMCPB5530X115; Packing: Reel; Mounting Technology: Surface Mount; ComponentLink1Description: Manufacturer URL; ComponentLink1URL: http://www.nxp.com/; ComponentLink2Description: Datasheet; ComponentLink2URL: http://www.nxp.com/documents/data_sheet/PMCPB5530X.pdf; ComponentLink3Description: Package Specification; ComponentLink3URL: http://www.nxp.com/documents/outline_drawing/sot1118_po.pdf
footprint NXP-SOT1118_N (SON, 6-Leads, Body 2.1x2.1mm, Pitch 0.65mm, 2X Thermal Pad 0.67x1 mm, IPC Medium Density)
footprint NXP-SOT1118_L (SON, 6-Leads, Body 2.1x2.1mm, Pitch 0.65mm, 2X Thermal Pad 0.67x1 mm, IPC High Density)
footprint NXP-SOT1118_M (SON, 6-Leads, Body 2.1x2.1mm, Pitch 0.65mm, 2X Thermal Pad 0.67x1 mm, IPC Low Density)
part A pins: 1 S1 "source TR1", 2 G1 "gate TR1", 6 D1 "drain TR1", 7 D1 "drain TR1"
part B pins: 3 D2 "drain TR2", 4 S2 "source TR2", 5 G2 "gate TR2", 8 D2 "drain TR2"
part A text: 6, 7
part B text: 3, 8

## PMCXB900UEZ
designator Q?
Dual Complementary N/P-Channel Trench MOSFET, 20 / -20 V, 0.6 / -0.5 A, -55 to 150 degC, 8-Pin SOT1216; Manufacturer: NXP Semiconductors; PartNumber: PMCXB900UEZ; Channel Type: N/P; DatasheetVersion: Rev. 1; PackageVersion: 13-03-06, 03/2013; PackageReference: SOT1216; PackageDescription: 6-Pin Small Outline No-Lead, Body 1.1 x 1 mm, Pitch 0.35 mm; Supplier 1: Digi-Key; Supplier Part Number 1: PMCXB900UEZ-ND; Supplier 2: Newark; Supplier Part Number 2: 23X8427; Supplier 3: Mouser; Supplier Part Number 3: 771-PMCXB900UEZ; Mounting Technology: Surface Mount; ComponentLink1Description: Manufacturer URL; ComponentLink1URL: http://www.nxp.com/; ComponentLink2Description: Datasheet; ComponentLink2URL: http://www.nxp.com/documents/data_sheet/PMCXB900UE.pdf; ComponentLink3Description: Package Specification; ComponentLink3URL: http://www.nxp.com/documents/outline_drawing/sot1216_po.pdf
footprint NXP-SOT1216_N (SON, 6-Leads, Body 1.15x1.05mm, Pitch 0.35mm, 2X Thermal Pad 0.35x0.25mm, IPC Medium Density)
footprint NXP-SOT1216_L (SON, 6-Leads, Body 1.15x1.05mm, Pitch 0.35mm, 2X Thermal Pad 0.35x0.25mm, IPC High Density)
footprint NXP-SOT1216_M (SON, 6-Leads, Body 1.15x1.05mm, Pitch 0.35mm, 2X Thermal Pad 0.35x0.25mm, IPC Low Density)
part A pins: 1 S1 "source TR1", 2 G1 "gate TR1", 6 D1 "drain TR1", 7 D1 "drain TR1"
part B pins: 3 D2 "drain TR2", 4 S2 "source TR2", 5 G2 "gate TR2", 8 D2 "drain TR2"
part A text: 6, 7
part B text: 3, 8

## PMDPB28UN,115
designator Q?
Dual N-Channel Trench MOSFET, 20 V, -55 to 150 degC, 8-Pin SOT1118, Reel; Manufacturer: NXP Semiconductors; PartNumber: PMDPB28UN,115; Channel Type: N; Ciss [typ] (pF): 265; Coss [typ] (pF): 76; VDS [max] (V): 20; VGSth [typ] (V): 0.7; DatasheetVersion: Rev. 1; PackageVersion: 13-06-06, 06/2013; PackageReference: SOT1118; PackageDescription: 6-Pin Small Outline No-Lead, Body 2 x 2 mm, Pitch 0.65 mm; Supplier 1: Digi-Key; Supplier Part Number 1: 568-10755-2-ND; Supplier 2: Digi-Key; Supplier Part Number 2: 568-10755-1-ND; Supplier 3: Digi-Key; Supplier Part Number 3: 568-10755-6-ND; Supplier 4: Mouser; Supplier Part Number 4: 771-PMDPB28UN,115; Packing: Reel; Mounting Technology: Surface Mount; ComponentLink1Description: Manufacturer URL; ComponentLink1URL: http://www.nxp.com/; ComponentLink2Description: Datasheet; ComponentLink2URL: http://www.nxp.com/documents/data_sheet/PMDPB28UN.pdf; ComponentLink3Description: Package Specification; ComponentLink3URL: http://www.nxp.com/documents/outline_drawing/sot1118_po.pdf
footprint NXP-SOT1118_N (SON, 6-Leads, Body 2.1x2.1mm, Pitch 0.65mm, 2X Thermal Pad 0.67x1 mm, IPC Medium Density)
footprint NXP-SOT1118_L (SON, 6-Leads, Body 2.1x2.1mm, Pitch 0.65mm, 2X Thermal Pad 0.67x1 mm, IPC High Density)
footprint NXP-SOT1118_M (SON, 6-Leads, Body 2.1x2.1mm, Pitch 0.65mm, 2X Thermal Pad 0.67x1 mm, IPC Low Density)
part A pins: 1 S1 "source TR1", 2 G1 "gate TR1", 6 D1 "drain TR1", 7 D1 "drain TR1"
part B pins: 3 D2 "drain TR2", 4 S2 "source TR2", 5 G2 "gate TR2", 8 D2 "drain TR2"
part A text: 6, 7
part B text: 3, 8

## PMDPB30XN,115
designator Q?
Dual N-Channel Trench MOSFET, 20 V, -55 to 150 degC, 8-Pin SOT1118, Reel; Manufacturer: NXP Semiconductors; PartNumber: PMDPB30XN,115; Channel Type: N; Ciss [typ] (pF): 660; Coss [typ] (pF): 87; VDS [max] (V): 20; VGSth [typ] (V): 0.65; DatasheetVersion: Rev. 1; PackageVersion: 13-06-06, 06/2013; PackageReference: SOT1118; PackageDescription: 6-Pin Small Outline No-Lead, Body 2 x 2 mm, Pitch 0.65 mm; Supplier 1: Digi-Key; Supplier Part Number 1: 568-10756-2-ND; Supplier 2: Digi-Key; Supplier Part Number 2: 568-10756-1-ND; Supplier 3: Digi-Key; Supplier Part Number 3: 568-10756-6-ND; Supplier 4: Mouser; Supplier Part Number 4: 771-PMDPB30XN115; Packing: Reel; Mounting Technology: Surface Mount; ComponentLink1Description: Manufacturer URL; ComponentLink1URL: http://www.nxp.com/; ComponentLink2Description: Datasheet; ComponentLink2URL: http://www.nxp.com/documents/data_sheet/PMDPB30XN.pdf; ComponentLink3Description: Package Specification; ComponentLink3URL: http://www.nxp.com/documents/outline_drawing/sot1118_po.pdf
footprint NXP-SOT1118_N (SON, 6-Leads, Body 2.1x2.1mm, Pitch 0.65mm, 2X Thermal Pad 0.67x1 mm, IPC Medium Density)
footprint NXP-SOT1118_L (SON, 6-Leads, Body 2.1x2.1mm, Pitch 0.65mm, 2X Thermal Pad 0.67x1 mm, IPC High Density)
footprint NXP-SOT1118_M (SON, 6-Leads, Body 2.1x2.1mm, Pitch 0.65mm, 2X Thermal Pad 0.67x1 mm, IPC Low Density)
part A pins: 1 S1 "source TR1", 2 G1 "gate TR1", 6 D1 "drain TR1", 7 D1 "drain TR1"
part B pins: 3 D2 "drain TR2", 4 S2 "source TR2", 5 G2 "gate TR2", 8 D2 "drain TR2"
part A text: 6, 7
part B text: 3, 8

## PMDPB38UNE,115
designator Q?
Dual N-Channel Trench MOSFET, 20 V, -55 to 150 degC, 8-Pin SOT1118, Reel; Manufacturer: NXP Semiconductors; PartNumber: PMDPB38UNE,115; Channel Type: N; Ciss [typ] (pF): 268; Coss [typ] (pF): 70; VDS [max] (V): 20; VGSth [typ] (V): 0.7; DatasheetVersion: Rev. 1; PackageVersion: 13-06-06, 06/2013; PackageReference: SOT1118; PackageDescription: 6-Pin Small Outline No-Lead, Body 2 x 2 mm, Pitch 0.65 mm; Supplier 1: Digi-Key; Supplier Part Number 1: 568-10757-2-ND; Supplier 2: Digi-Key; Supplier Part Number 2: 568-10757-1-ND; Supplier 3: Digi-Key; Supplier Part Number 3: 568-10757-6-ND; Supplier 4: Mouser; Supplier Part Number 4: 771-PMDPB38UNE115; Packing: Reel; Mounting Technology: Surface Mount; ComponentLink1Description: Manufacturer URL; ComponentLink1URL: http://www.nxp.com/; ComponentLink2Description: Datasheet; ComponentLink2URL: http://www.nxp.com/documents/data_sheet/PMDPB38UNE.pdf; ComponentLink3Description: Package Specification; ComponentLink3URL: http://www.nxp.com/documents/outline_drawing/sot1118_po.pdf
footprint NXP-SOT1118_N (SON, 6-Leads, Body 2.1x2.1mm, Pitch 0.65mm, 2X Thermal Pad 0.67x1 mm, IPC Medium Density)
footprint NXP-SOT1118_L (SON, 6-Leads, Body 2.1x2.1mm, Pitch 0.65mm, 2X Thermal Pad 0.67x1 mm, IPC High Density)
footprint NXP-SOT1118_M (SON, 6-Leads, Body 2.1x2.1mm, Pitch 0.65mm, 2X Thermal Pad 0.67x1 mm, IPC Low Density)
part A pins: 1 S1 "source TR1", 2 G1 "gate TR1", 6 D1 "drain TR1", 7 D1 "drain TR1"
part B pins: 3 D2 "drain TR2", 4 S2 "source TR2", 5 G2 "gate TR2", 8 D2 "drain TR2"
part A text: 6, 7
part B text: 3, 8

## PMDPB55XP,115
designator Q?
Dual P-Channel Trench MOSFET, -20 V, -55 to 150 degC, 8-Pin SOT1118, Reel; Manufacturer: NXP Semiconductors; PartNumber: PMDPB55XP,115; Channel Type: P; Ciss [typ] (pF): 785; Coss [typ] (pF): 80; VGSth [typ] (V): -0.65; DatasheetVersion: Rev. 3; PackageVersion: 13-06-06, 06/2013; PackageReference: SOT1118; PackageDescription: 6-Pin Small Outline No-Lead, Body 2 x 2 mm, Pitch 0.65 mm; Supplier 1: Digi-Key; Supplier Part Number 1: 568-10759-2-ND; Supplier 2: Digi-Key; Supplier Part Number 2: 568-10759-1-ND; Supplier 3: Digi-Key; Supplier Part Number 3: 568-10759-6-ND; Supplier 4: Mouser; Supplier Part Number 4: 771-PMDPB55XP,115; Packing: Reel; VDS [max] (V): -20; Mounting Technology: Surface Mount; ComponentLink1Description: Manufacturer URL; ComponentLink1URL: http://www.nxp.com/; ComponentLink2Description: Datasheet; ComponentLink2URL: http://www.nxp.com/documents/data_sheet/PMDPB55XP.pdf; ComponentLink3Description: Package Specification; ComponentLink3URL: http://www.nxp.com/documents/outline_drawing/sot1118_po.pdf
footprint NXP-SOT1118_N (SON, 6-Leads, Body 2.1x2.1mm, Pitch 0.65mm, 2X Thermal Pad 0.67x1 mm, IPC Medium Density)
footprint NXP-SOT1118_L (SON, 6-Leads, Body 2.1x2.1mm, Pitch 0.65mm, 2X Thermal Pad 0.67x1 mm, IPC High Density)
footprint NXP-SOT1118_M (SON, 6-Leads, Body 2.1x2.1mm, Pitch 0.65mm, 2X Thermal Pad 0.67x1 mm, IPC Low Density)
part A pins: 1 S1 "source TR1", 2 G1 "gate TR1", 6 D1 "drain TR1", 7 D1 "drain TR1"
part B pins: 3 D2 "drain TR2", 4 S2 "source TR2", 5 G2 "gate TR2", 8 D2 "drain TR2"
part A text: 6, 7
part B text: 3, 8

## PMDPB56XN,115
designator Q?
Dual N-Channel Trench MOSFET, 30 V, -55 to 150 degC, 8-Pin SOT1118, Reel; Manufacturer: NXP Semiconductors; PartNumber: PMDPB56XN,115; Channel Type: N; Ciss [typ] (pF): 170; Coss [typ] (pF): 35; VDS [max] (V): 30; VGSth [typ] (V): 1; DatasheetVersion: Rev. 1; PackageVersion: 13-06-06, 06/2013; PackageReference: SOT1118; PackageDescription: 6-Pin Small Outline No-Lead, Body 2 x 2 mm, Pitch 0.65 mm; Supplier 1: Digi-Key; Supplier Part Number 1: 568-10760-2-ND; Supplier 2: Digi-Key; Supplier Part Number 2: 568-10760-1-ND; Supplier 3: Digi-Key; Supplier Part Number 3: 568-10760-6-ND; Supplier 4: Mouser; Supplier Part Number 4: 771-PMDPB56XN,115; Packing: Reel; Mounting Technology: Surface Mount; ComponentLink1Description: Manufacturer URL; ComponentLink1URL: http://www.nxp.com/; ComponentLink2Description: Datasheet; ComponentLink2URL: http://www.nxp.com/documents/data_sheet/PMDPB56XN.pdf; ComponentLink3Description: Package Specification; ComponentLink3URL: http://www.nxp.com/documents/outline_drawing/sot1118_po.pdf
footprint NXP-SOT1118_N (SON, 6-Leads, Body 2.1x2.1mm, Pitch 0.65mm, 2X Thermal Pad 0.67x1 mm, IPC Medium Density)
footprint NXP-SOT1118_L (SON, 6-Leads, Body 2.1x2.1mm, Pitch 0.65mm, 2X Thermal Pad 0.67x1 mm, IPC High Density)
footprint NXP-SOT1118_M (SON, 6-Leads, Body 2.1x2.1mm, Pitch 0.65mm, 2X Thermal Pad 0.67x1 mm, IPC Low Density)
part A pins: 1 S1 "source TR1", 2 G1 "gate TR1", 6 D1 "drain TR1", 7 D1 "drain TR1"
part B pins: 3 D2 "drain TR2", 4 S2 "source TR2", 5 G2 "gate TR2", 8 D2 "drain TR2"
part A text: 6, 7
part B text: 3, 8

## PMDPB58UPE,115
designator Q?
Dual P-Channel Trench MOSFET, -20 V, -55 to 150 degC, 8-Pin SOT1118, Reel; Manufacturer: NXP Semiconductors; PartNumber: PMDPB58UPE,115; Channel Type: P; Ciss [typ] (pF): 804; Coss [typ] (pF): 95; VGSth [typ] (V): -0.7; DatasheetVersion: Rev. 1; PackageVersion: 13-06-06, 06/2013; PackageReference: SOT1118; PackageDescription: 6-Pin Small Outline No-Lead, Body 2 x 2 mm, Pitch 0.65 mm; Supplier 1: Digi-Key; Supplier Part Number 1: 568-10442-2-ND; Supplier 2: Digi-Key; Supplier Part Number 2: 568-10442-1-ND; Supplier 3: Digi-Key; Supplier Part Number 3: 568-10442-6-ND; Supplier 4: Mouser; Supplier Part Number 4: 771-PMDPB58UPE,115; Packing: Reel; VDS [max] (V): -20; Mounting Technology: Surface Mount; ComponentLink1Description: Manufacturer URL; ComponentLink1URL: http://www.nxp.com/; ComponentLink2Description: Datasheet; ComponentLink2URL: http://www.nxp.com/documents/data_sheet/PMDPB58UPE.pdf; ComponentLink3Description: Package Specification; ComponentLink3URL: http://www.nxp.com/documents/outline_drawing/sot1118_po.pdf
footprint NXP-SOT1118_N (SON, 6-Leads, Body 2.1x2.1mm, Pitch 0.65mm, 2X Thermal Pad 0.67x1 mm, IPC Medium Density)
footprint NXP-SOT1118_L (SON, 6-Leads, Body 2.1x2.1mm, Pitch 0.65mm, 2X Thermal Pad 0.67x1 mm, IPC High Density)
footprint NXP-SOT1118_M (SON, 6-Leads, Body 2.1x2.1mm, Pitch 0.65mm, 2X Thermal Pad 0.67x1 mm, IPC Low Density)
part A pins: 1 S1 "sourse TR1", 2 G1 "gate TR1", 6 D1 "drain TR1", 7 D1 "drain TR1"
part B pins: 3 D2 "drain TR2", 4 S2 "sourse TR2", 5 G2 "gate TR2", 8 D2 "drain TR2"
part A text: 6, 7
part B text: 3, 8

## PMDPB70EN,115
designator Q?
Dual N-Channel Trench MOSFET, 30 V, -55 to 150 degC, 8-Pin SOT1118, Reel; Manufacturer: NXP Semiconductors; PartNumber: PMDPB70EN,115; Channel Type: N; Ciss [typ] (pF): 130; Coss [typ] (pF): 33; VDS [max] (V): 30; VGSth [typ] (V): 1.5; DatasheetVersion: Rev. 1; PackageVersion: 13-06-06, 06/2013; PackageReference: SOT1118; PackageDescription: 6-Pin Small Outline No-Lead, Body 2 x 2 mm, Pitch 0.65 mm; Supplier 1: Digi-Key; Supplier Part Number 1: 568-10761-2-ND; Supplier 2: Digi-Key; Supplier Part Number 2: 568-10761-1-ND; Supplier 3: Digi-Key; Supplier Part Number 3: 568-10761-6-ND; Supplier 4: Mouser; Supplier Part Number 4: 771-PMDPB70EN115; Packing: Reel; Mounting Technology: Surface Mount; ComponentLink1Description: Manufacturer URL; ComponentLink1URL: http://www.nxp.com/; ComponentLink2Description: Datasheet; ComponentLink2URL: http://www.nxp.com/documents/data_sheet/PMDPB70EN.pdf; ComponentLink3Description: Package Specification; ComponentLink3URL: http://www.nxp.com/documents/outline_drawing/sot1118_po.pdf
footprint NXP-SOT1118_N (SON, 6-Leads, Body 2.1x2.1mm, Pitch 0.65mm, 2X Thermal Pad 0.67x1 mm, IPC Medium Density)
footprint NXP-SOT1118_L (SON, 6-Leads, Body 2.1x2.1mm, Pitch 0.65mm, 2X Thermal Pad 0.67x1 mm, IPC High Density)
footprint NXP-SOT1118_M (SON, 6-Leads, Body 2.1x2.1mm, Pitch 0.65mm, 2X Thermal Pad 0.67x1 mm, IPC Low Density)
part A pins: 1 S1 "source TR1", 2 G1 "gate TR1", 6 D1 "drain TR1", 7 D1 "drain TR1"
part B pins: 3 D2 "drain TR2", 4 S2 "source TR2", 5 G2 "gate TR2", 8 D2 "drain TR2"
part A text: 6, 7
part B text: 3, 8

## PMDPB70XP,115
designator Q?
Dual P-Channel Trench MOSFET, -30 V, -55 to 150 degC, 8-Pin SOT1118, Reel; Manufacturer: NXP Semiconductors; PartNumber: PMDPB70XP,115; Channel Type: P; Ciss [typ] (pF): 680; Coss [typ] (pF): 54; VGSth [typ] (V): -0.7; DatasheetVersion: Rev. 1; PackageVersion: 13-06-06, 06/2013; PackageReference: SOT1118; PackageDescription: 6-Pin Small Outline No-Lead, Body 2 x 2 mm, Pitch 0.65 mm; Supplier 1: Digi-Key; Supplier Part Number 1: 568-10443-2-ND; Supplier 2: Digi-Key; Supplier Part Number 2: 568-10443-1-ND; Supplier 3: Digi-Key; Supplier Part Number 3: 568-10443-6-ND; Supplier 4: Mouser; Supplier Part Number 4: 771-PMDPB70XP115; Packing: Reel; VDS [max] (V): -30; Mounting Technology: Surface Mount; ComponentLink1Description: Manufacturer URL; ComponentLink1URL: http://www.nxp.com/; ComponentLink2Description: Datasheet; ComponentLink2URL: http://www.nxp.com/documents/data_sheet/PMDPB70XP.pdf; ComponentLink3Description: Package Specification; ComponentLink3URL: http://www.nxp.com/documents/outline_drawing/sot1118_po.pdf
footprint NXP-SOT1118_N (SON, 6-Leads, Body 2.1x2.1mm, Pitch 0.65mm, 2X Thermal Pad 0.67x1 mm, IPC Medium Density)
footprint NXP-SOT1118_L (SON, 6-Leads, Body 2.1x2.1mm, Pitch 0.65mm, 2X Thermal Pad 0.67x1 mm, IPC High Density)
footprint NXP-SOT1118_M (SON, 6-Leads, Body 2.1x2.1mm, Pitch 0.65mm, 2X Thermal Pad 0.67x1 mm, IPC Low Density)
part A pins: 1 S1 "source TR1", 2 G1 "gate TR1", 6 D1 "drain TR1", 7 D1 "drain TR1"
part B pins: 3 D2 "drain TR2", 4 S2 "source TR2", 5 G2 "gate TR2", 8 D2 "drain TR2"
part A text: 6, 7
part B text: 3, 8

## PMDPB70XPE,115
designator Q?
Dual P-Channel Trench MOSFET, -20 V, -55 to 150 degC, 8-Pin SOT1118, Reel; Manufacturer: NXP Semiconductors; PartNumber: PMDPB70XPE,115; Channel Type: P; Ciss [typ] (pF): 600; Coss [typ] (pF): 103; VGSth [typ] (V): -1; DatasheetVersion: Rev. 1; PackageVersion: 13-06-06, 06/2013; PackageReference: SOT1118; PackageDescription: 6-Pin Small Outline No-Lead, Body 2 x 2 mm, Pitch 0.65 mm; Supplier 1: Digi-Key; Supplier Part Number 1: 568-10762-2-ND; Supplier 2: Digi-Key; Supplier Part Number 2: 568-10762-1-ND; Supplier 3: Digi-Key; Supplier Part Number 3: 568-10762-6-ND; Supplier 4: Mouser; Supplier Part Number 4: 771-PMDPB70XPE115; Packing: Reel; VDS [max] (V): -20; Mounting Technology: Surface Mount; ComponentLink1Description: Manufacturer URL; ComponentLink1URL: http://www.nxp.com/; ComponentLink2Description: Datasheet; ComponentLink2URL: http://www.nxp.com/documents/data_sheet/PMDPB70XPE.pdf; ComponentLink3Description: Package Specification; ComponentLink3URL: http://www.nxp.com/documents/outline_drawing/sot1118_po.pdf
footprint NXP-SOT1118_N (SON, 6-Leads, Body 2.1x2.1mm, Pitch 0.65mm, 2X Thermal Pad 0.67x1 mm, IPC Medium Density)
footprint NXP-SOT1118_L (SON, 6-Leads, Body 2.1x2.1mm, Pitch 0.65mm, 2X Thermal Pad 0.67x1 mm, IPC High Density)
footprint NXP-SOT1118_M (SON, 6-Leads, Body 2.1x2.1mm, Pitch 0.65mm, 2X Thermal Pad 0.67x1 mm, IPC Low Density)
part A pins: 1 S1 "sourse TR1", 2 G1 "gate TR1", 6 D1 "drain TR1", 7 D1 "drain TR1"
part B pins: 3 D2 "drain TR2", 4 S2 "sourse TR2", 5 G2 "gate TR2", 8 D2 "drain TR2"
part A text: 6, 7
part B text: 3, 8

## PMDPB80XP,115
designator Q?
Dual P-Channel Trench MOSFET, -20 V, -55 to 150 degC, 8-Pin SOT1118, Reel; Manufacturer: NXP Semiconductors; PartNumber: PMDPB80XP,115; Channel Type: P; Ciss [typ] (pF): 550; Coss [typ] (pF): 63; VGSth [typ] (V): -0.6; DatasheetVersion: Rev. 1; PackageVersion: 13-06-06, 06/2013; PackageReference: SOT1118; PackageDescription: 6-Pin Small Outline No-Lead, Body 2 x 2 mm, Pitch 0.65 mm; Supplier 1: Digi-Key; Supplier Part Number 1: 568-10763-2-ND; Supplier 2: Digi-Key; Supplier Part Number 2: 568-10763-1-ND; Supplier 3: Digi-Key; Supplier Part Number 3: 568-10763-6-ND; Supplier 4: Mouser; Supplier Part Number 4: 771-PMDPB80XP,115; Packing: Reel; VDS [max] (V): -20; Mounting Technology: Surface Mount; ComponentLink1Description: Manufacturer URL; ComponentLink1URL: http://www.nxp.com/; ComponentLink2Description: Datasheet; ComponentLink2URL: http://www.nxp.com/documents/data_sheet/PMDPB80XP.pdf; ComponentLink3Description: Package Specification; ComponentLink3URL: http://www.nxp.com/documents/outline_drawing/sot1118_po.pdf
footprint NXP-SOT1118_N (SON, 6-Leads, Body 2.1x2.1mm, Pitch 0.65mm, 2X Thermal Pad 0.67x1 mm, IPC Medium Density)
footprint NXP-SOT1118_L (SON, 6-Leads, Body 2.1x2.1mm, Pitch 0.65mm, 2X Thermal Pad 0.67x1 mm, IPC High Density)
footprint NXP-SOT1118_M (SON, 6-Leads, Body 2.1x2.1mm, Pitch 0.65mm, 2X Thermal Pad 0.67x1 mm, IPC Low Density)
part A pins: 1 S1 "source TR1", 2 G1 "gate TR1", 6 D1 "drain TR1", 7 D1 "drain TR1"
part B pins: 3 D2 "drain TR2", 4 S2 "source TR2", 5 G2 "gate TR2", 8 D2 "drain TR2"
part A text: 6, 7
part B text: 3, 8

## PMDPB85UPE,115
designator Q?
Dual P-Channel Trench MOSFET, -20 V, -55 to 150 degC, 8-Pin SOT1118, Reel; Manufacturer: NXP Semiconductors; PartNumber: PMDPB85UPE,115; Channel Type: P; Ciss [typ] (pF): 514; Coss [typ] (pF): 78; VGSth [typ] (V): -0.7; DatasheetVersion: Rev. 1; PackageVersion: 13-06-06, 06/2013; PackageReference: SOT1118; PackageDescription: 6-Pin Small Outline No-Lead, Body 2 x 2 mm, Pitch 0.65 mm; Supplier 1: Digi-Key; Supplier Part Number 1: 568-10444-2-ND; Supplier 2: Digi-Key; Supplier Part Number 2: 568-10444-1-ND; Supplier 3: Digi-Key; Supplier Part Number 3: 568-10444-6-ND; Supplier 4: Mouser; Supplier Part Number 4: 771-PMDPB85UPE115; Packing: Reel; VDS [max] (V): -20; Mounting Technology: Surface Mount; ComponentLink1Description: Manufacturer URL; ComponentLink1URL: http://www.nxp.com/; ComponentLink2Description: Datasheet; ComponentLink2URL: http://www.nxp.com/documents/data_sheet/PMDPB85UPE.pdf; ComponentLink3Description: Package Specification; ComponentLink3URL: http://www.nxp.com/documents/outline_drawing/sot1118_po.pdf
footprint NXP-SOT1118_N (SON, 6-Leads, Body 2.1x2.1mm, Pitch 0.65mm, 2X Thermal Pad 0.67x1 mm, IPC Medium Density)
footprint NXP-SOT1118_L (SON, 6-Leads, Body 2.1x2.1mm, Pitch 0.65mm, 2X Thermal Pad 0.67x1 mm, IPC High Density)
footprint NXP-SOT1118_M (SON, 6-Leads, Body 2.1x2.1mm, Pitch 0.65mm, 2X Thermal Pad 0.67x1 mm, IPC Low Density)
part A pins: 1 S1 "sourse TR1", 2 G1 "gate TR1", 6 D1 "drain TR1", 7 D1 "drain TR1"
part B pins: 3 D2 "drain TR2", 4 S2 "sourse TR2", 5 G2 "gate TR2", 8 D2 "drain TR2"
part A text: 6, 7
part B text: 3, 8

## PMDPB95XNE,115
designator Q?
Dual N-Channel Trench MOSFET, 30 V, -55 to 150 degC, 8-Pin SOT1118, Reel; Manufacturer: NXP Semiconductors; PartNumber: PMDPB95XNE,115; Channel Type: N; Ciss [typ] (pF): 143; Coss [typ] (pF): 43; VDS [max] (V): 30; VGSth [typ] (V): 1; DatasheetVersion: Rev. 1; PackageVersion: 13-06-06, 06/2013; PackageReference: SOT1118; PackageDescription: 6-Pin Small Outline No-Lead, Body 2 x 2 mm, Pitch 0.65 mm; Supplier 1: Digi-Key; Supplier Part Number 1: 568-10764-2-ND; Supplier 2: Digi-Key; Supplier Part Number 2: 568-10764-1-ND; Supplier 3: Digi-Key; Supplier Part Number 3: 568-10764-6-ND; Supplier 4: Mouser; Supplier Part Number 4: 771-PMDPB95XNE115; Packing: Reel; Mounting Technology: Surface Mount; ComponentLink1Description: Manufacturer URL; ComponentLink1URL: http://www.nxp.com/; ComponentLink2Description: Datasheet; ComponentLink2URL: http://www.nxp.com/documents/data_sheet/PMDPB95XNE.pdf; ComponentLink3Description: Package Specification; ComponentLink3URL: http://www.nxp.com/documents/outline_drawing/sot1118_po.pdf
footprint NXP-SOT1118_N (SON, 6-Leads, Body 2.1x2.1mm, Pitch 0.65mm, 2X Thermal Pad 0.67x1 mm, IPC Medium Density)
footprint NXP-SOT1118_L (SON, 6-Leads, Body 2.1x2.1mm, Pitch 0.65mm, 2X Thermal Pad 0.67x1 mm, IPC High Density)
footprint NXP-SOT1118_M (SON, 6-Leads, Body 2.1x2.1mm, Pitch 0.65mm, 2X Thermal Pad 0.67x1 mm, IPC Low Density)
part A pins: 1 S1 "source TR1", 2 G1 "gate TR1", 6 D1 "drain TR1", 7 D1 "drain TR1"
part B pins: 3 D2 "drain TR2", 4 S2 "source TR2", 5 G2 "gate TR2", 8 D2 "drain TR2"
part A text: 6, 7
part B text: 3, 8

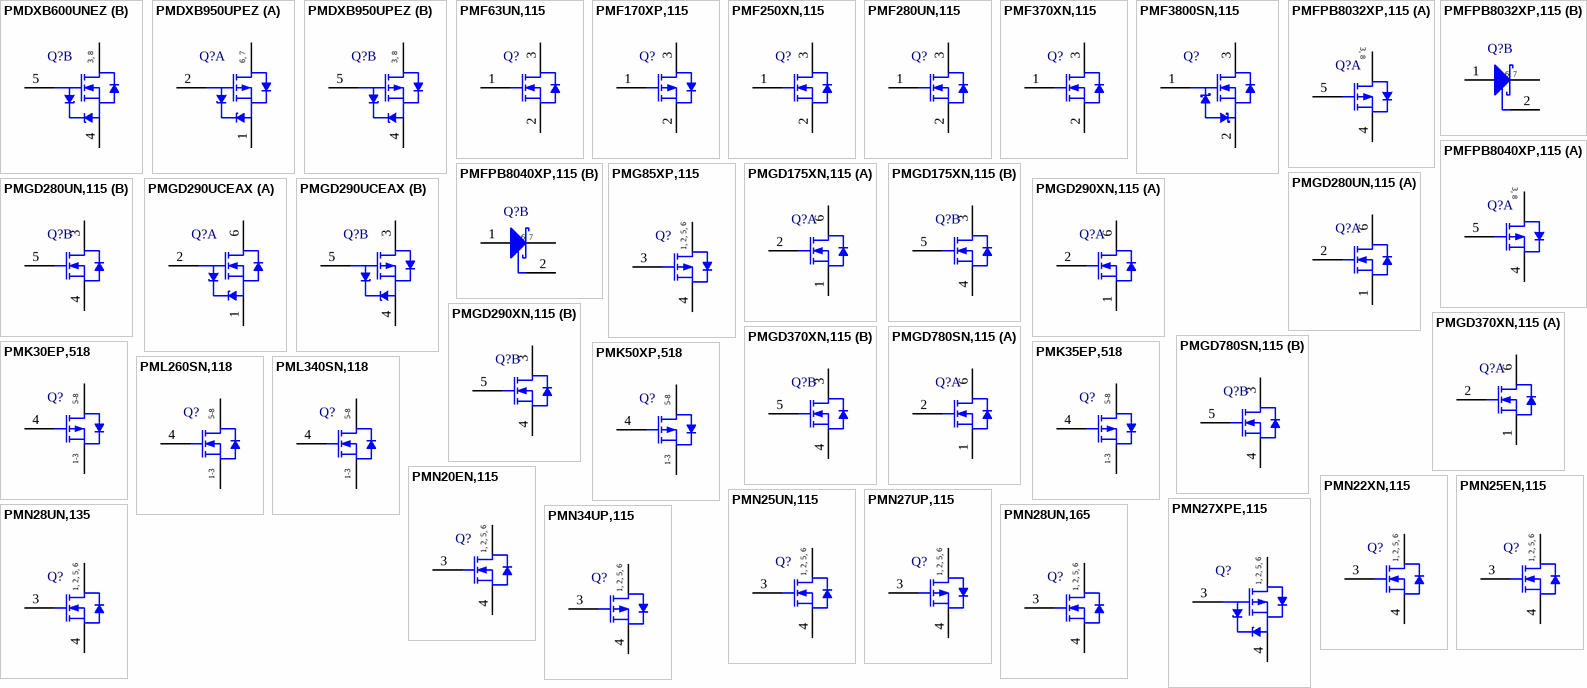
[diagram p4: symbols PMDXB600UNEZ to PMN34UP,115]

## PMDXB600UNEZ
designator Q?
Dual N-Channel Trench MOSFET, 20 V, 0.6 A, -55 to 150 degC, 8-Pin SOT1216; Manufacturer: NXP Semiconductors; PartNumber: PMDXB600UNEZ; Channel Type: N; Ciss [typ] (pF): 21.3; Coss [typ] (pF): 5.4; ID [max] (A): 0.6; VDS [max] (V): 20; VGSth [typ] (V): 0.7; DatasheetVersion: Rev. 1; PackageVersion: 13-03-06, 03/2013; PackageReference: SOT1216; PackageDescription: 6-Pin Small Outline No-Lead, Body 1.1 x 1 mm, Pitch 0.35 mm; Supplier 1: Digi-Key; Supplier Part Number 1: PMDXB600UNEZ-ND; Supplier 2: Newark; Supplier Part Number 2: 23X8428; Supplier 3: Mouser; Supplier Part Number 3: 771-PMDXB600UNEZ; Mounting Technology: Surface Mount; ComponentLink1Description: Manufacturer URL; ComponentLink1URL: http://www.nxp.com/; ComponentLink2Description: Datasheet; ComponentLink2URL: http://www.nxp.com/documents/data_sheet/PMDXB600UNE.pdf; ComponentLink3Description: Package Specification; ComponentLink3URL: http://www.nxp.com/documents/outline_drawing/sot1216_po.pdf
footprint NXP-SOT1216_N (SON, 6-Leads, Body 1.15x1.05mm, Pitch 0.35mm, 2X Thermal Pad 0.35x0.25mm, IPC Medium Density)
footprint NXP-SOT1216_L (SON, 6-Leads, Body 1.15x1.05mm, Pitch 0.35mm, 2X Thermal Pad 0.35x0.25mm, IPC High Density)
footprint NXP-SOT1216_M (SON, 6-Leads, Body 1.15x1.05mm, Pitch 0.35mm, 2X Thermal Pad 0.35x0.25mm, IPC Low Density)
part A pins: 1 S1 "source TR1", 2 G1 "gate TR1", 6 D1 "drain TR1", 7 D1 "drain TR1"
part B pins: 3 D2 "drain TR2", 4 S2 "source TR2", 5 G2 "gate TR2", 8 D2 "drain TR2"
part A text: 6, 7
part B text: 3, 8